# Altium schematic symbol library WCAP-AIG8.SchLib: 37 symbols
Pins are listed as number, name and electrical type; pins without a type are passive.

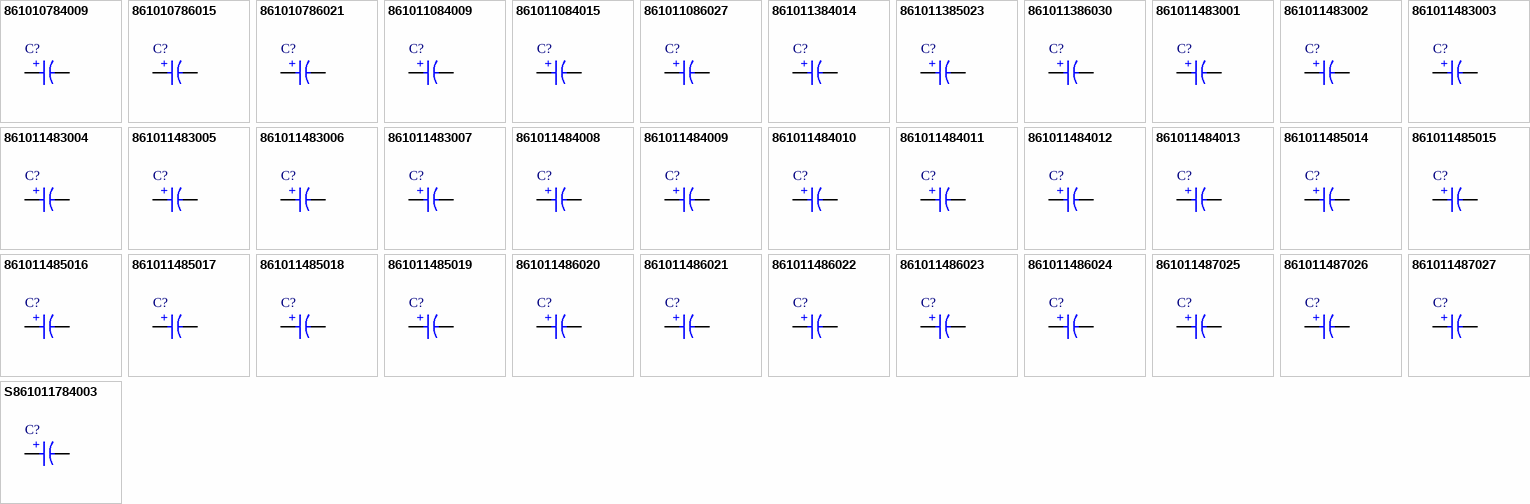
[diagram p0: symbols 861010784009 to S861011784003]

## 861010784009
designator C?, comment 3300µF  (value not drawn)
WCAP-AIG8 Aluminum Electrolytic Capacitor, Snap-In, D25 x H30mm, 3300µF, 63V; Manufacturer Part Number: 861010784009; Manufacturer: Wurth Elektronik; Capacitance Tolerance: +/-20%; Dissipation Factor: 20%; Endurance: 2000h; Leakage Current: 4158µA; Ripple Current: 3.25A; Technical Reference: ANBO300332M063DSIC3B000; Category: Aluminum Electrolytic Capacitors; Match Code: WCAP-AIG8; ComponentLink1Description: Website Link; ComponentLink1URL: https://www.we-online.com/redexpert/article/861010784009?ad; ComponentLink2Description: Datasheet Link; ComponentLink2URL: https://www.we-online.com/redexpert/spec/861010784009?ad; Mount: Through Hole; Min Operating Temperature: -40°C; Max Operating Temperature: 85°C; Packaging: Tray; Case/Size Code: D25 x H30mm; Height: 30mm; Diameter: 25mm; Capacitance: 3300µF; Rated Voltage (DC): 63V
footprint WCAP-AIG8_D25H30
simulation model 861010784009_3.3mF
pins: 1 P, 2 N
text: +

## 861010786015
designator C?, comment 4700µF  (value not drawn)
WCAP-AIG8 Aluminum Electrolytic Capacitor, Snap-In, D35 x H25mm, 4700µF, 63V; Manufacturer Part Number: 861010786015; Manufacturer: Wurth Elektronik; Capacitance Tolerance: +/-20%; Dissipation Factor: 30%; Endurance: 2000h; Leakage Current: 5922µA; Ripple Current: 3.5A; Technical Reference: ANBQ250472M063DSIC2B000; Category: Aluminum Electrolytic Capacitors; Match Code: WCAP-AIG8; ComponentLink1Description: Website Link; ComponentLink1URL: https://www.we-online.com/redexpert/article/861010786015?ad; ComponentLink2Description: Datasheet Link; ComponentLink2URL: https://www.we-online.com/redexpert/spec/861010786015?ad; Mount: Through Hole; Min Operating Temperature: -40°C; Max Operating Temperature: 85°C; Packaging: Tray; Case/Size Code: D35 x H25mm; Height: 25mm; Diameter: 35mm; Capacitance: 4700µF; Rated Voltage (DC): 63V
footprint WCAP-AIG8_D35H25
simulation model 861010786015_4.7mF
pins: 1 P, 2 N
text: +

## 861010786021
designator C?, comment 6800µF  (value not drawn)
WCAP-AIG8 Aluminum Electrolytic Capacitor, Snap-In, D35 x H30mm, 6800µF, 63V; Manufacturer Part Number: 861010786021; Manufacturer: Wurth Elektronik; Capacitance Tolerance: +/-20%; Dissipation Factor: 30%; Endurance: 2000h; Leakage Current: 8568µA; Ripple Current: 5.4A; Technical Reference: ANBQ300682M063DSIC2B000; Category: Aluminum Electrolytic Capacitors; Match Code: WCAP-AIG8; ComponentLink1Description: Website Link; ComponentLink1URL: https://www.we-online.com/redexpert/article/861010786021?ad; ComponentLink2Description: Datasheet Link; ComponentLink2URL: https://www.we-online.com/redexpert/spec/861010786021?ad; Mount: Through Hole; Min Operating Temperature: -40°C; Max Operating Temperature: 85°C; Packaging: Tray; Case/Size Code: D35 x H30mm; Height: 30mm; Diameter: 35mm; Capacitance: 6800µF; Rated Voltage (DC): 63V
footprint WCAP-AIG8_D35H30
simulation model 861010786021_6.8mF
pins: 1 P, 2 N
text: +

## 861011084009
designator C?, comment 470µF  (value not drawn)
WCAP-AIG8 Aluminum Electrolytic Capacitor, Snap-In, D25 x H25mm, 470µF, 200V; Manufacturer Part Number: 861011084009; Manufacturer: Wurth Elektronik; Capacitance Tolerance: +/-20%; Dissipation Factor: 15%; Endurance: 2000h; Leakage Current: 1880µA; Ripple Current: 2.08A; Technical Reference: ANAO250471M200DSIC3B000; Category: Aluminum Electrolytic Capacitors; Match Code: WCAP-AIG8; ComponentLink1Description: Website Link; ComponentLink1URL: https://www.we-online.com/redexpert/article/861011084009?ad; ComponentLink2Description: Datasheet Link; ComponentLink2URL: https://www.we-online.com/redexpert/spec/861011084009?ad; Mount: Through Hole; Min Operating Temperature: -25°C; Max Operating Temperature: 85°C; Packaging: Tray; Case/Size Code: D25 x H25mm; Height: 25mm; Diameter: 25mm; Capacitance: 470µF; Rated Voltage (DC): 200V
footprint WCAP-AIG8_D25H25
simulation model 861011084009_470uF
pins: 1 P, 2 N
text: +

## 861011084015
designator C?, comment 680µF  (value not drawn)
WCAP-AIG8 Aluminum Electrolytic Capacitor, Snap-In, D25 x H30mm, 680µF, 200V; Manufacturer Part Number: 861011084015; Manufacturer: Wurth Elektronik; Capacitance Tolerance: +/-20%; Dissipation Factor: 15%; Endurance: 2000h; Leakage Current: 2720µA; Ripple Current: 2.98A; Technical Reference: ANAO300681M200DSIC3B000; Category: Aluminum Electrolytic Capacitors; Match Code: WCAP-AIG8; ComponentLink1Description: Website Link; ComponentLink1URL: https://www.we-online.com/redexpert/article/861011084015?ad; ComponentLink2Description: Datasheet Link; ComponentLink2URL: https://www.we-online.com/redexpert/spec/861011084015?ad; Mount: Through Hole; Min Operating Temperature: -25°C; Max Operating Temperature: 85°C; Packaging: Tray; Case/Size Code: D25 x H30mm; Height: 30mm; Diameter: 25mm; Capacitance: 680µF; Rated Voltage (DC): 200V
footprint WCAP-AIG8_D25H30
simulation model 861011084015_680uF
pins: 1 P, 2 N
text: +

## 861011086027
designator C?, comment 1500µF  (value not drawn)
WCAP-AIG8 Aluminum Electrolytic Capacitor, Snap-In, D35 x H35mm, 1500µF, 200V; Manufacturer Part Number: 861011086027; Manufacturer: Wurth Elektronik; Capacitance Tolerance: +/-20%; Dissipation Factor: 15%; Endurance: 2000h; Leakage Current: 6000µA; Ripple Current: 4.77A; Technical Reference: ANAQ350152M200DSIC2B000; Category: Aluminum Electrolytic Capacitors; Match Code: WCAP-AIG8; ComponentLink1Description: Website Link; ComponentLink1URL: https://www.we-online.com/redexpert/article/861011086027?ad; ComponentLink2Description: Datasheet Link; ComponentLink2URL: https://www.we-online.com/redexpert/spec/861011086027?ad; Mount: Through Hole; Min Operating Temperature: -25°C; Max Operating Temperature: 85°C; Packaging: Tray; Case/Size Code: D35 x H35mm; Height: 35mm; Diameter: 35mm; Capacitance: 1500µF; Rated Voltage (DC): 200V
footprint WCAP-AIG8_D35H35
simulation model 861011086027_1.5mF
pins: 1 P, 2 N
text: +

## 861011384014
designator C?, comment 220µF  (value not drawn)
WCAP-AIG8 Aluminum Electrolytic Capacitor, Snap-In, D25 x H30mm, 220µF, 400V; Manufacturer Part Number: 861011384014; Manufacturer: Wurth Elektronik; Capacitance Tolerance: +/-20%; Dissipation Factor: 20%; Endurance: 2000h; Leakage Current: 1760µA; Ripple Current: 1.72A; Technical Reference: ANAO300221M400DSIC3B000; Category: Aluminum Electrolytic Capacitors; Match Code: WCAP-AIG8; ComponentLink1Description: Website Link; ComponentLink1URL: https://www.we-online.com/redexpert/article/861011384014?ad; ComponentLink2Description: Datasheet Link; ComponentLink2URL: https://www.we-online.com/redexpert/spec/861011384014?ad; Mount: Through Hole; Min Operating Temperature: -25°C; Max Operating Temperature: 85°C; Packaging: Tray; Case/Size Code: D25 x H30mm; Height: 30mm; Diameter: 25mm; Capacitance: 220µF; Rated Voltage (DC): 400V
footprint WCAP-AIG8_D25H30
simulation model 861011384014_220uF
pins: 1 P, 2 N
text: +

## 861011385023
designator C?, comment 330µF  (value not drawn)
WCAP-AIG8 Aluminum Electrolytic Capacitor, Snap-In, D30 x H30mm, 330µF, 400V; Manufacturer Part Number: 861011385023; Manufacturer: Wurth Elektronik; Capacitance Tolerance: +/-20%; Dissipation Factor: 20%; Endurance: 2000h; Leakage Current: 2640µA; Ripple Current: 2.05A; Technical Reference: ANAP300331M400DSIC2B000; Category: Aluminum Electrolytic Capacitors; Match Code: WCAP-AIG8; ComponentLink1Description: Website Link; ComponentLink1URL: https://www.we-online.com/redexpert/article/861011385023?ad; ComponentLink2Description: Datasheet Link; ComponentLink2URL: https://www.we-online.com/redexpert/spec/861011385023?ad; Mount: Through Hole; Min Operating Temperature: -25°C; Max Operating Temperature: 85°C; Packaging: Tray; Case/Size Code: D30 x H30mm; Height: 30mm; Diameter: 30mm; Capacitance: 330µF; Rated Voltage (DC): 400V
footprint WCAP-AIG8_D30H30
simulation model 861011385023_330uF
pins: 1 P, 2 N
text: +

## 861011386030
designator C?, comment 470µF  (value not drawn)
WCAP-AIG8 Aluminum Electrolytic Capacitor, Snap-In, D35 x H35mm, 470µF, 400V; Manufacturer Part Number: 861011386030; Manufacturer: Wurth Elektronik; Capacitance Tolerance: +/-20%; Dissipation Factor: 20%; Endurance: 2000h; Leakage Current: 3760µA; Ripple Current: 2.76A; Technical Reference: ANAQ350471M400DSIC2B000; Category: Aluminum Electrolytic Capacitors; Match Code: WCAP-AIG8; ComponentLink1Description: Website Link; ComponentLink1URL: https://www.we-online.com/redexpert/article/861011386030?ad; ComponentLink2Description: Datasheet Link; ComponentLink2URL: https://www.we-online.com/redexpert/spec/861011386030?ad; Mount: Through Hole; Min Operating Temperature: -25°C; Max Operating Temperature: 85°C; Packaging: Tray; Case/Size Code: D35 x H35mm; Height: 35mm; Diameter: 35mm; Capacitance: 470µF; Rated Voltage (DC): 400V
footprint WCAP-AIG8_D35H35
simulation model 861011386030_470uF
pins: 1 P, 2 N
text: +

## 861011483001
designator C?, comment 47µF  (value not drawn)
WCAP-AIG8 Aluminum Electrolytic Capacitor, Snap-In, D22 x H25mm, 47µF, 450V; Manufacturer Part Number: 861011483001; Manufacturer: Wurth Elektronik; Capacitance Tolerance: +/-20%; Dissipation Factor: 20%; Endurance: 2000h; Leakage Current: 423µA; Ripple Current: 0.55A; Technical Reference: ANAN260470M450DSIC3B000; Category: Aluminum Electrolytic Capacitors; Match Code: WCAP-AIG8; ComponentLink1Description: Website Link; ComponentLink1URL: https://www.we-online.com/redexpert/article/861011483001?ad; ComponentLink2Description: Datasheet Link; ComponentLink2URL: https://www.we-online.com/redexpert/spec/861011483001?ad; Mount: Through Hole; Min Operating Temperature: -25°C; Max Operating Temperature: 85°C; Packaging: Tray; Case/Size Code: D22 x H25mm; Height: 25mm; Diameter: 22mm; Capacitance: 47µF; Rated Voltage (DC): 450V
footprint WCAP-AIG8_D22H25
simulation model 861011483001_47uF
pins: 1 P, 2 N
text: +

## 861011483002
designator C?, comment 68µF  (value not drawn)
WCAP-AIG8 Aluminum Electrolytic Capacitor, Snap-In, D22 x H30mm, 68µF, 450V; Manufacturer Part Number: 861011483002; Manufacturer: Wurth Elektronik; Capacitance Tolerance: +/-20%; Dissipation Factor: 20%; Endurance: 2000h; Leakage Current: 612µA; Ripple Current: 0.75A; Technical Reference: ANAN310680M450DSIC3B000; Category: Aluminum Electrolytic Capacitors; Match Code: WCAP-AIG8; ComponentLink1Description: Website Link; ComponentLink1URL: https://www.we-online.com/redexpert/article/861011483002?ad; ComponentLink2Description: Datasheet Link; ComponentLink2URL: https://www.we-online.com/redexpert/spec/861011483002?ad; Mount: Through Hole; Min Operating Temperature: -25°C; Max Operating Temperature: 85°C; Packaging: Tray; Case/Size Code: D22 x H30mm; Height: 30mm; Diameter: 22mm; Capacitance: 68µF; Rated Voltage (DC): 450V
footprint WCAP-AIG8_D22H30
simulation model 861011483002_68uF
pins: 1 P, 2 N
text: +

## 861011483003
designator C?, comment 82µF  (value not drawn)
WCAP-AIG8 Aluminum Electrolytic Capacitor, Snap-In, D22 x H30mm, 82µF, 450V; Manufacturer Part Number: 861011483003; Manufacturer: Wurth Elektronik; Capacitance Tolerance: +/-20%; Dissipation Factor: 20%; Endurance: 2000h; Leakage Current: 738µA; Ripple Current: 0.93A; Technical Reference: ANAN310820M450DSIC3B000; Category: Aluminum Electrolytic Capacitors; Match Code: WCAP-AIG8; ComponentLink1Description: Website Link; ComponentLink1URL: https://www.we-online.com/redexpert/article/861011483003?ad; ComponentLink2Description: Datasheet Link; ComponentLink2URL: https://www.we-online.com/redexpert/spec/861011483003?ad; Mount: Through Hole; Min Operating Temperature: -25°C; Max Operating Temperature: 85°C; Packaging: Tray; Case/Size Code: D22 x H30mm; Height: 30mm; Diameter: 22mm; Capacitance: 82µF; Rated Voltage (DC): 450V
footprint WCAP-AIG8_D22H30
simulation model 861011483003_82uF
pins: 1 P, 2 N
text: +

## 861011483004
designator C?, comment 100µF  (value not drawn)
WCAP-AIG8 Aluminum Electrolytic Capacitor, Snap-In, D22 x H35mm, 100µF, 450V; Manufacturer Part Number: 861011483004; Manufacturer: Wurth Elektronik; Capacitance Tolerance: +/-20%; Dissipation Factor: 20%; Endurance: 2000h; Leakage Current: 900µA; Ripple Current: 1.03A; Technical Reference: ANAN360101M450DSIC3B000; Category: Aluminum Electrolytic Capacitors; Match Code: WCAP-AIG8; ComponentLink1Description: Website Link; ComponentLink1URL: https://www.we-online.com/redexpert/article/861011483004?ad; ComponentLink2Description: Datasheet Link; ComponentLink2URL: https://www.we-online.com/redexpert/spec/861011483004?ad; Mount: Through Hole; Min Operating Temperature: -25°C; Max Operating Temperature: 85°C; Packaging: Tray; Case/Size Code: D22 x H35mm; Height: 35mm; Diameter: 22mm; Capacitance: 100µF; Rated Voltage (DC): 450V
footprint WCAP-AIG8_D22H35
simulation model 861011483004_100uF
pins: 1 P, 2 N
text: +

## 861011483005
designator C?, comment 120µF  (value not drawn)
WCAP-AIG8 Aluminum Electrolytic Capacitor, Snap-In, D22 x H40mm, 120µF, 450V; Manufacturer Part Number: 861011483005; Manufacturer: Wurth Elektronik; Capacitance Tolerance: +/-20%; Dissipation Factor: 20%; Endurance: 2000h; Leakage Current: 1080µA; Ripple Current: 1.26A; Technical Reference: ANAN410121M450DSIC3B000; Category: Aluminum Electrolytic Capacitors; Match Code: WCAP-AIG8; ComponentLink1Description: Website Link; ComponentLink1URL: https://www.we-online.com/redexpert/article/861011483005?ad; ComponentLink2Description: Datasheet Link; ComponentLink2URL: https://www.we-online.com/redexpert/spec/861011483005?ad; Mount: Through Hole; Min Operating Temperature: -25°C; Max Operating Temperature: 85°C; Packaging: Tray; Case/Size Code: D22 x H40mm; Height: 40mm; Diameter: 22mm; Capacitance: 120µF; Rated Voltage (DC): 450V
footprint WCAP-AIG8_D22H40
simulation model 861011483005_120uF
pins: 1 P, 2 N
text: +

## 861011483006
designator C?, comment 150µF  (value not drawn)
WCAP-AIG8 Aluminum Electrolytic Capacitor, Snap-In, D22 x H50mm, 150µF, 450V; Manufacturer Part Number: 861011483006; Manufacturer: Wurth Elektronik; Capacitance Tolerance: +/-20%; Dissipation Factor: 20%; Endurance: 2000h; Leakage Current: 1350µA; Ripple Current: 1.69A; Technical Reference: ANAN510151M450DSIC3B000; Category: Aluminum Electrolytic Capacitors; Match Code: WCAP-AIG8; ComponentLink1Description: Website Link; ComponentLink1URL: https://www.we-online.com/redexpert/article/861011483006?ad; ComponentLink2Description: Datasheet Link; ComponentLink2URL: https://www.we-online.com/redexpert/spec/861011483006?ad; Mount: Through Hole; Min Operating Temperature: -25°C; Max Operating Temperature: 85°C; Packaging: Tray; Case/Size Code: D22 x H50mm; Height: 50mm; Diameter: 22mm; Capacitance: 150µF; Rated Voltage (DC): 450V
footprint WCAP-AIG8_D22H50
simulation model 861011483006_150uF
pins: 1 P, 2 N
text: +

## 861011483007
designator C?, comment 180µF  (value not drawn)
WCAP-AIG8 Aluminum Electrolytic Capacitor, Snap-In, D22 x H50mm, 180µF, 450V; Manufacturer Part Number: 861011483007; Manufacturer: Wurth Elektronik; Capacitance Tolerance: +/-20%; Dissipation Factor: 20%; Endurance: 2000h; Leakage Current: 1620µA; Ripple Current: 1.58A; Technical Reference: ANAN510181M450DSIC3B000; Category: Aluminum Electrolytic Capacitors; Match Code: WCAP-AIG8; ComponentLink1Description: Website Link; ComponentLink1URL: https://www.we-online.com/redexpert/article/861011483007?ad; ComponentLink2Description: Datasheet Link; ComponentLink2URL: https://www.we-online.com/redexpert/spec/861011483007?ad; Mount: Through Hole; Min Operating Temperature: -25°C; Max Operating Temperature: 85°C; Packaging: Tray; Case/Size Code: D22 x H50mm; Height: 50mm; Diameter: 22mm; Capacitance: 180µF; Rated Voltage (DC): 450V
footprint WCAP-AIG8_D22H50
simulation model 861011483007_180uF
pins: 1 P, 2 N
text: +

## 861011484008
designator C?, comment 82µF  (value not drawn)
WCAP-AIG8 Aluminum Electrolytic Capacitor, Snap-In, D25 x H25mm, 82µF, 450V; Manufacturer Part Number: 861011484008; Manufacturer: Wurth Elektronik; Capacitance Tolerance: +/-20%; Dissipation Factor: 20%; Endurance: 2000h; Leakage Current: 738µA; Ripple Current: 0.9A; Technical Reference: ANAO260820M450DSIC3B000; Category: Aluminum Electrolytic Capacitors; Match Code: WCAP-AIG8; ComponentLink1Description: Website Link; ComponentLink1URL: https://www.we-online.com/redexpert/article/861011484008?ad; ComponentLink2Description: Datasheet Link; ComponentLink2URL: https://www.we-online.com/redexpert/spec/861011484008?ad; Mount: Through Hole; Min Operating Temperature: -25°C; Max Operating Temperature: 85°C; Packaging: Tray; Case/Size Code: D25 x H25mm; Height: 25mm; Diameter: 25mm; Capacitance: 82µF; Rated Voltage (DC): 450V
footprint WCAP-AIG8_D25H25
simulation model 861011484008_82uF
pins: 1 P, 2 N
text: +

## 861011484009
designator C?, comment 100µF  (value not drawn)
WCAP-AIG8 Aluminum Electrolytic Capacitor, Snap-In, D25 x H30mm, 100µF, 450V; Manufacturer Part Number: 861011484009; Manufacturer: Wurth Elektronik; Capacitance Tolerance: +/-20%; Dissipation Factor: 20%; Endurance: 2000h; Leakage Current: 900µA; Ripple Current: 1.06A; Technical Reference: ANAO310101M450DSIC3B000; Category: Aluminum Electrolytic Capacitors; Match Code: WCAP-AIG8; ComponentLink1Description: Website Link; ComponentLink1URL: https://www.we-online.com/redexpert/article/861011484009?ad; ComponentLink2Description: Datasheet Link; ComponentLink2URL: https://www.we-online.com/redexpert/spec/861011484009?ad; Mount: Through Hole; Min Operating Temperature: -25°C; Max Operating Temperature: 85°C; Packaging: Tray; Case/Size Code: D25 x H30mm; Height: 30mm; Diameter: 25mm; Capacitance: 100µF; Rated Voltage (DC): 450V
footprint WCAP-AIG8_D25H30
simulation model 861011484009_100uF
pins: 1 P, 2 N
text: +

## 861011484010
designator C?, comment 120µF  (value not drawn)
WCAP-AIG8 Aluminum Electrolytic Capacitor, Snap-In, D25 x H35mm, 120µF, 450V; Manufacturer Part Number: 861011484010; Manufacturer: Wurth Elektronik; Capacitance Tolerance: +/-20%; Dissipation Factor: 20%; Endurance: 2000h; Leakage Current: 1080µA; Ripple Current: 1.34A; Technical Reference: ANAO360121M450DSIC3B000; Category: Aluminum Electrolytic Capacitors; Match Code: WCAP-AIG8; ComponentLink1Description: Website Link; ComponentLink1URL: https://www.we-online.com/redexpert/article/861011484010?ad; ComponentLink2Description: Datasheet Link; ComponentLink2URL: https://www.we-online.com/redexpert/spec/861011484010?ad; Mount: Through Hole; Min Operating Temperature: -25°C; Max Operating Temperature: 85°C; Packaging: Tray; Case/Size Code: D25 x H35mm; Height: 35mm; Diameter: 25mm; Capacitance: 120µF; Rated Voltage (DC): 450V
footprint WCAP-AIG8_D25H35
simulation model 861011484010_120uF
pins: 1 P, 2 N
text: +

## 861011484011
designator C?, comment 150µF  (value not drawn)
WCAP-AIG8 Aluminum Electrolytic Capacitor, Snap-In, D25 x H40mm, 150µF, 450V; Manufacturer Part Number: 861011484011; Manufacturer: Wurth Elektronik; Capacitance Tolerance: +/-20%; Dissipation Factor: 20%; Endurance: 2000h; Leakage Current: 1350µA; Ripple Current: 1.74A; Technical Reference: ANAO410151M450DSIC3B000; Category: Aluminum Electrolytic Capacitors; Match Code: WCAP-AIG8; ComponentLink1Description: Website Link; ComponentLink1URL: https://www.we-online.com/redexpert/article/861011484011?ad; ComponentLink2Description: Datasheet Link; ComponentLink2URL: https://www.we-online.com/redexpert/spec/861011484011?ad; Mount: Through Hole; Min Operating Temperature: -25°C; Max Operating Temperature: 85°C; Packaging: Tray; Case/Size Code: D25 x H40mm; Height: 40mm; Diameter: 25mm; Capacitance: 150µF; Rated Voltage (DC): 450V
footprint WCAP-AIG8_D25H40
simulation model 861011484011_150uF
pins: 1 P, 2 N
text: +

## 861011484012
designator C?, comment 180µF  (value not drawn)
WCAP-AIG8 Aluminum Electrolytic Capacitor, Snap-In, D25 x H45mm, 180µF, 450V; Manufacturer Part Number: 861011484012; Manufacturer: Wurth Elektronik; Capacitance Tolerance: +/-20%; Dissipation Factor: 20%; Endurance: 2000h; Leakage Current: 1620µA; Ripple Current: 1.57A; Technical Reference: ANAO460181M450DSIC3B000; Category: Aluminum Electrolytic Capacitors; Match Code: WCAP-AIG8; ComponentLink1Description: Website Link; ComponentLink1URL: https://www.we-online.com/redexpert/article/861011484012?ad; ComponentLink2Description: Datasheet Link; ComponentLink2URL: https://www.we-online.com/redexpert/spec/861011484012?ad; Mount: Through Hole; Min Operating Temperature: -25°C; Max Operating Temperature: 85°C; Packaging: Tray; Case/Size Code: D25 x H45mm; Height: 45mm; Diameter: 25mm; Capacitance: 180µF; Rated Voltage (DC): 450V
footprint WCAP-AIG8_D25H45
simulation model 861011484012_180uF
pins: 1 P, 2 N
text: +

## 861011484013
designator C?, comment 220µF  (value not drawn)
WCAP-AIG8 Aluminum Electrolytic Capacitor, Snap-In, D25 x H50mm, 220µF, 450V; Manufacturer Part Number: 861011484013; Manufacturer: Wurth Elektronik; Capacitance Tolerance: +/-20%; Dissipation Factor: 20%; Endurance: 2000h; Leakage Current: 1980µA; Ripple Current: 1.82A; Technical Reference: ANAO510221M450DSIC3B000; Category: Aluminum Electrolytic Capacitors; Match Code: WCAP-AIG8; ComponentLink1Description: Website Link; ComponentLink1URL: https://www.we-online.com/redexpert/article/861011484013?ad; ComponentLink2Description: Datasheet Link; ComponentLink2URL: https://www.we-online.com/redexpert/spec/861011484013?ad; Mount: Through Hole; Min Operating Temperature: -25°C; Max Operating Temperature: 85°C; Packaging: Tray; Case/Size Code: D25 x H50mm; Height: 50mm; Diameter: 25mm; Capacitance: 220µF; Rated Voltage (DC): 450V
footprint WCAP-AIG8_D25H50
simulation model 861011484013_220uF
pins: 1 P, 2 N
text: +

## 861011485014
designator C?, comment 150µF  (value not drawn)
WCAP-AIG8 Aluminum Electrolytic Capacitor, Snap-In, D30 x H30mm, 150µF, 450V; Manufacturer Part Number: 861011485014; Manufacturer: Wurth Elektronik; Capacitance Tolerance: +/-20%; Dissipation Factor: 20%; Endurance: 2000h; Leakage Current: 1350µA; Ripple Current: 1.47A; Technical Reference: ANAP310151M450DSIC2B000; Category: Aluminum Electrolytic Capacitors; Match Code: WCAP-AIG8; ComponentLink1Description: Website Link; ComponentLink1URL: https://www.we-online.com/redexpert/article/861011485014?ad; ComponentLink2Description: Datasheet Link; ComponentLink2URL: https://www.we-online.com/redexpert/spec/861011485014?ad; Mount: Through Hole; Min Operating Temperature: -25°C; Max Operating Temperature: 85°C; Packaging: Tray; Case/Size Code: D30 x H30mm; Height: 30mm; Diameter: 30mm; Capacitance: 150µF; Rated Voltage (DC): 450V
footprint WCAP-AIG8_D30H30
simulation model 861011485014_150uF
pins: 1 P, 2 N
text: +

## 861011485015
designator C?, comment 180µF  (value not drawn)
WCAP-AIG8 Aluminum Electrolytic Capacitor, Snap-In, D30 x H35mm, 180µF, 450V; Manufacturer Part Number: 861011485015; Manufacturer: Wurth Elektronik; Capacitance Tolerance: +/-20%; Dissipation Factor: 20%; Endurance: 2000h; Leakage Current: 1620µA; Ripple Current: 1.58A; Technical Reference: ANAP360181M450DSIC2B000; Category: Aluminum Electrolytic Capacitors; Match Code: WCAP-AIG8; ComponentLink1Description: Website Link; ComponentLink1URL: https://www.we-online.com/redexpert/article/861011485015?ad; ComponentLink2Description: Datasheet Link; ComponentLink2URL: https://www.we-online.com/redexpert/spec/861011485015?ad; Mount: Through Hole; Min Operating Temperature: -25°C; Max Operating Temperature: 85°C; Packaging: Tray; Case/Size Code: D30 x H35mm; Height: 35mm; Diameter: 30mm; Capacitance: 180µF; Rated Voltage (DC): 450V
footprint WCAP-AIG8_D30H35
simulation model 861011485015_180uF
pins: 1 P, 2 N
text: +

## 861011485016
designator C?, comment 220µF  (value not drawn)
WCAP-AIG8 Aluminum Electrolytic Capacitor, Snap-In, D30 x H40mm, 220µF, 450V; Manufacturer Part Number: 861011485016; Manufacturer: Wurth Elektronik; Capacitance Tolerance: +/-20%; Dissipation Factor: 20%; Endurance: 2000h; Leakage Current: 1980µA; Ripple Current: 1.86A; Technical Reference: ANAP410221M450DSIC2B000; Category: Aluminum Electrolytic Capacitors; Match Code: WCAP-AIG8; ComponentLink1Description: Website Link; ComponentLink1URL: https://www.we-online.com/redexpert/article/861011485016?ad; ComponentLink2Description: Datasheet Link; ComponentLink2URL: https://www.we-online.com/redexpert/spec/861011485016?ad; Mount: Through Hole; Min Operating Temperature: -25°C; Max Operating Temperature: 85°C; Packaging: Tray; Case/Size Code: D30 x H40mm; Height: 40mm; Diameter: 30mm; Capacitance: 220µF; Rated Voltage (DC): 450V
footprint WCAP-AIG8_D30H40
simulation model 861011485016_220uF
pins: 1 P, 2 N
text: +

## 861011485017
designator C?, comment 270µF  (value not drawn)
WCAP-AIG8 Aluminum Electrolytic Capacitor, Snap-In, D30 x H45mm, 270µF, 450V; Manufacturer Part Number: 861011485017; Manufacturer: Wurth Elektronik; Capacitance Tolerance: +/-20%; Dissipation Factor: 20%; Endurance: 2000h; Leakage Current: 2430µA; Ripple Current: 2.25A; Technical Reference: ANAP460271M450DSIC2B000; Category: Aluminum Electrolytic Capacitors; Match Code: WCAP-AIG8; ComponentLink1Description: Website Link; ComponentLink1URL: https://www.we-online.com/redexpert/article/861011485017?ad; ComponentLink2Description: Datasheet Link; ComponentLink2URL: https://www.we-online.com/redexpert/spec/861011485017?ad; Mount: Through Hole; Min Operating Temperature: -25°C; Max Operating Temperature: 85°C; Packaging: Tray; Case/Size Code: D30 x H45mm; Height: 45mm; Diameter: 30mm; Capacitance: 270µF; Rated Voltage (DC): 450V
footprint WCAP-AIG8_D30H45
simulation model 861011485017_270uF
pins: 1 P, 2 N
text: +

## 861011485018
designator C?, comment 330µF  (value not drawn)
WCAP-AIG8 Aluminum Electrolytic Capacitor, Snap-In, D30 x H45mm, 330µF, 450V; Manufacturer Part Number: 861011485018; Manufacturer: Wurth Elektronik; Capacitance Tolerance: +/-20%; Dissipation Factor: 20%; Endurance: 2000h; Leakage Current: 2970µA; Ripple Current: 2.29A; Technical Reference: ANAP460331M450DSIC2B000; Category: Aluminum Electrolytic Capacitors; Match Code: WCAP-AIG8; ComponentLink1Description: Website Link; ComponentLink1URL: https://www.we-online.com/redexpert/article/861011485018?ad; ComponentLink2Description: Datasheet Link; ComponentLink2URL: https://www.we-online.com/redexpert/spec/861011485018?ad; Mount: Through Hole; Min Operating Temperature: -25°C; Max Operating Temperature: 85°C; Packaging: Tray; Case/Size Code: D30 x H45mm; Height: 45mm; Diameter: 30mm; Capacitance: 330µF; Rated Voltage (DC): 450V
footprint WCAP-AIG8_D30H45
simulation model 861011485018_330uF
pins: 1 P, 2 N
text: +

## 861011485019
designator C?, comment 390µF  (value not drawn)
WCAP-AIG8 Aluminum Electrolytic Capacitor, Snap-In, D30 x H45mm, 390µF, 450V; Manufacturer Part Number: 861011485019; Manufacturer: Wurth Elektronik; Capacitance Tolerance: +/-20%; Dissipation Factor: 20%; Endurance: 2000h; Leakage Current: 3510µA; Ripple Current: 2.54A; Technical Reference: ANAP460391M450DSIC2B000; Category: Aluminum Electrolytic Capacitors; Match Code: WCAP-AIG8; ComponentLink1Description: Website Link; ComponentLink1URL: https://www.we-online.com/redexpert/article/861011485019?ad; ComponentLink2Description: Datasheet Link; ComponentLink2URL: https://www.we-online.com/redexpert/spec/861011485019?ad; Mount: Through Hole; Min Operating Temperature: -25°C; Max Operating Temperature: 85°C; Packaging: Tray; Case/Size Code: D30 x H45mm; Height: 45mm; Diameter: 30mm; Capacitance: 390µF; Rated Voltage (DC): 450V
footprint WCAP-AIG8_D30H45
simulation model 861011485019_390uF
pins: 1 P, 2 N
text: +

## 861011486020
designator C?, comment 220µF  (value not drawn)
WCAP-AIG8 Aluminum Electrolytic Capacitor, Snap-In, D35 x H35mm, 220µF, 450V; Manufacturer Part Number: 861011486020; Manufacturer: Wurth Elektronik; Capacitance Tolerance: +/-20%; Dissipation Factor: 20%; Endurance: 2000h; Leakage Current: 1980µA; Ripple Current: 1.92A; Technical Reference: ANAQ370221M450DSIC2B000; Category: Aluminum Electrolytic Capacitors; Match Code: WCAP-AIG8; ComponentLink1Description: Website Link; ComponentLink1URL: https://www.we-online.com/redexpert/article/861011486020?ad; ComponentLink2Description: Datasheet Link; ComponentLink2URL: https://www.we-online.com/redexpert/spec/861011486020?ad; Mount: Through Hole; Min Operating Temperature: -25°C; Max Operating Temperature: 85°C; Packaging: Tray; Case/Size Code: D35 x H35mm; Height: 35mm; Diameter: 35mm; Capacitance: 220µF; Rated Voltage (DC): 450V
footprint WCAP-AIG8_D35H35
simulation model 861011486020_220uF
pins: 1 P, 2 N
text: +

## 861011486021
designator C?, comment 270µF  (value not drawn)
WCAP-AIG8 Aluminum Electrolytic Capacitor, Snap-In, D35 x H35mm, 270µF, 450V; Manufacturer Part Number: 861011486021; Manufacturer: Wurth Elektronik; Capacitance Tolerance: +/-20%; Dissipation Factor: 20%; Endurance: 2000h; Leakage Current: 2430µA; Ripple Current: 2A; Technical Reference: ANAQ370271M450DSIC2B000; Category: Aluminum Electrolytic Capacitors; Match Code: WCAP-AIG8; ComponentLink1Description: Website Link; ComponentLink1URL: https://www.we-online.com/redexpert/article/861011486021?ad; ComponentLink2Description: Datasheet Link; ComponentLink2URL: https://www.we-online.com/redexpert/spec/861011486021?ad; Mount: Through Hole; Min Operating Temperature: -25°C; Max Operating Temperature: 85°C; Packaging: Tray; Case/Size Code: D35 x H35mm; Height: 35mm; Diameter: 35mm; Capacitance: 270µF; Rated Voltage (DC): 450V
footprint WCAP-AIG8_D35H35
simulation model 861011486021_270uF
pins: 1 P, 2 N
text: +

## 861011486022
designator C?, comment 330µF  (value not drawn)
WCAP-AIG8 Aluminum Electrolytic Capacitor, Snap-In, D35 x H35mm, 330µF, 450V; Manufacturer Part Number: 861011486022; Manufacturer: Wurth Elektronik; Capacitance Tolerance: +/-20%; Dissipation Factor: 20%; Endurance: 2000h; Leakage Current: 2970µA; Ripple Current: 2.29A; Technical Reference: ANAQ370331M450DSIC2B000; Category: Aluminum Electrolytic Capacitors; Match Code: WCAP-AIG8; ComponentLink1Description: Website Link; ComponentLink1URL: https://www.we-online.com/redexpert/article/861011486022?ad; ComponentLink2Description: Datasheet Link; ComponentLink2URL: https://www.we-online.com/redexpert/spec/861011486022?ad; Mount: Through Hole; Min Operating Temperature: -25°C; Max Operating Temperature: 85°C; Packaging: Tray; Case/Size Code: D35 x H35mm; Height: 35mm; Diameter: 35mm; Capacitance: 330µF; Rated Voltage (DC): 450V
footprint WCAP-AIG8_D35H35
simulation model 861011486022_330uF
pins: 1 P, 2 N
text: +

## 861011486023
designator C?, comment 390µF  (value not drawn)
WCAP-AIG8 Aluminum Electrolytic Capacitor, Snap-In, D35 x H40mm, 390µF, 450V; Manufacturer Part Number: 861011486023; Manufacturer: Wurth Elektronik; Capacitance Tolerance: +/-20%; Dissipation Factor: 20%; Endurance: 2000h; Leakage Current: 3510µA; Ripple Current: 2.54A; Technical Reference: ANAQ420391M450DSIC2B000; Category: Aluminum Electrolytic Capacitors; Match Code: WCAP-AIG8; ComponentLink1Description: Website Link; ComponentLink1URL: https://www.we-online.com/redexpert/article/861011486023?ad; ComponentLink2Description: Datasheet Link; ComponentLink2URL: https://www.we-online.com/redexpert/spec/861011486023?ad; Mount: Through Hole; Min Operating Temperature: -25°C; Max Operating Temperature: 85°C; Packaging: Tray; Case/Size Code: D35 x H40mm; Height: 40mm; Diameter: 35mm; Capacitance: 390µF; Rated Voltage (DC): 450V
footprint WCAP-AIG8_D35H40
simulation model 861011486023_390uF
pins: 1 P, 2 N
text: +

## 861011486024
designator C?, comment 470µF  (value not drawn)
WCAP-AIG8 Aluminum Electrolytic Capacitor, Snap-In, D35 x H45mm, 470µF, 450V; Manufacturer Part Number: 861011486024; Manufacturer: Wurth Elektronik; Capacitance Tolerance: +/-20%; Dissipation Factor: 20%; Endurance: 2000h; Leakage Current: 4230µA; Ripple Current: 2.89A; Technical Reference: ANAQ470471M450DSIC2B000; Category: Aluminum Electrolytic Capacitors; Match Code: WCAP-AIG8; ComponentLink1Description: Website Link; ComponentLink1URL: https://www.we-online.com/redexpert/article/861011486024?ad; ComponentLink2Description: Datasheet Link; ComponentLink2URL: https://www.we-online.com/redexpert/spec/861011486024?ad; Mount: Through Hole; Min Operating Temperature: -25°C; Max Operating Temperature: 85°C; Packaging: Tray; Case/Size Code: D35 x H45mm; Height: 45mm; Diameter: 35mm; Capacitance: 470µF; Rated Voltage (DC): 450V
footprint WCAP-AIG8_D35H45
simulation model 861011486024_470uF
pins: 1 P, 2 N
text: +

## 861011487025
designator C?, comment 390µF  (value not drawn)
WCAP-AIG8 Aluminum Electrolytic Capacitor, Snap-In, D40 x H35mm, 390µF, 450V; Manufacturer Part Number: 861011487025; Manufacturer: Wurth Elektronik; Capacitance Tolerance: +/-20%; Dissipation Factor: 20%; Endurance: 2000h; Leakage Current: 3510µA; Ripple Current: 2.67A; Technical Reference: ANAR370391M450DSIC1B000; Category: Aluminum Electrolytic Capacitors; Match Code: WCAP-AIG8; ComponentLink1Description: Website Link; ComponentLink1URL: https://www.we-online.com/redexpert/article/861011487025?ad; ComponentLink2Description: Datasheet Link; ComponentLink2URL: https://www.we-online.com/redexpert/spec/861011487025?ad; Mount: Through Hole; Min Operating Temperature: -25°C; Max Operating Temperature: 85°C; Packaging: Tray; Case/Size Code: D40 x H35mm; Height: 35mm; Diameter: 40mm; Capacitance: 390µF; Rated Voltage (DC): 450V
footprint WCAP-AIG8_D40H35
simulation model 861011487025_390uF
pins: 1 P, 2 N
text: +

## 861011487026
designator C?, comment 470µF  (value not drawn)
WCAP-AIG8 Aluminum Electrolytic Capacitor, Snap-In, D40 x H40mm, 470µF, 450V; Manufacturer Part Number: 861011487026; Manufacturer: Wurth Elektronik; Capacitance Tolerance: +/-20%; Dissipation Factor: 20%; Endurance: 2000h; Leakage Current: 4230µA; Ripple Current: 2.89A; Technical Reference: ANAR420471M450DSIC1B000; Category: Aluminum Electrolytic Capacitors; Match Code: WCAP-AIG8; ComponentLink1Description: Website Link; ComponentLink1URL: https://www.we-online.com/redexpert/article/861011487026?ad; ComponentLink2Description: Datasheet Link; ComponentLink2URL: https://www.we-online.com/redexpert/spec/861011487026?ad; Mount: Through Hole; Min Operating Temperature: -25°C; Max Operating Temperature: 85°C; Packaging: Tray; Case/Size Code: D40 x H40mm; Height: 40mm; Diameter: 40mm; Capacitance: 470µF; Rated Voltage (DC): 450V
footprint WCAP-AIG8_D40H40
simulation model 861011487026_470uF
pins: 1 P, 2 N
text: +

## 861011487027
designator C?, comment 560µF  (value not drawn)
WCAP-AIG8 Aluminum Electrolytic Capacitor, Snap-In, D40 x H50mm, 560µF, 450V; Manufacturer Part Number: 861011487027; Manufacturer: Wurth Elektronik; Capacitance Tolerance: +/-20%; Dissipation Factor: 20%; Endurance: 2000h; Leakage Current: 5040µA; Ripple Current: 3.47A; Technical Reference: ANAR520561M450DSIC1B000; Category: Aluminum Electrolytic Capacitors; Match Code: WCAP-AIG8; ComponentLink1Description: Website Link; ComponentLink1URL: https://www.we-online.com/redexpert/article/861011487027?ad; ComponentLink2Description: Datasheet Link; ComponentLink2URL: https://www.we-online.com/redexpert/spec/861011487027?ad; Mount: Through Hole; Min Operating Temperature: -25°C; Max Operating Temperature: 85°C; Packaging: Tray; Case/Size Code: D40 x H50mm; Height: 50mm; Diameter: 40mm; Capacitance: 560µF; Rated Voltage (DC): 450V
footprint WCAP-AIG8_D40H50
simulation model 861011487027_560uF
pins: 1 P, 2 N
text: +

## S861011784003
designator C?, comment 1100µF  (value not drawn)
WCAP-AIG8 Aluminum Electrolytic Capacitor, Snap-In, D25 x H20mm, 1100µF, 80V; Manufacturer Part Number: S861011784003; Manufacturer: Wurth Elektronik; Capacitance Tolerance: +/-20%; Dissipation Factor: 15%; Endurance: 2000h; Leakage Current: 890µA; Ripple Current: 1A; Technical Reference: ANBO200112M080DSIC3B0G2; Category: Aluminum Electrolytic Capacitors; Match Code: WCAP-AIG8; ComponentLink1Description: Website Link; ComponentLink1URL: https://www.we-online.com/redexpert/article/S861011784003?ad; ComponentLink2Description: Datasheet Link; ComponentLink2URL: https://www.we-online.com/redexpert/spec/S861011784003?ad; Mount: Through Hole; Min Operating Temperature: -40°C; Max Operating Temperature: 85°C; Packaging: Tray; Case/Size Code: D25 x H20mm; Height: 20mm; Diameter: 25mm; Capacitance: 1100µF; Rated Voltage (DC): 80V
footprint WCAP-AIG8_D25H20
simulation model S861011784003_1.1mF
pins: 1 P, 2 N
text: +